# EAGLE library part GPIO_PADS (library SobieskiSat2)
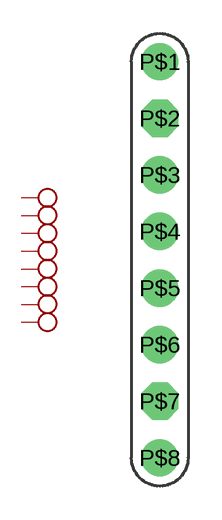
[diagram p16: symbol with the pads of GPIO_PADS; footprint GPIO_PADS]

Designator prefix -

## GPIO_PADS  [GPIO_PADS]
P$1  P$1
P$2  P$2
P$3  P$3
P$4  P$4
P$5  P$5
P$6  P$6
P$7  P$7
P$8  P$8

## Footprint GPIO_PADS (pad centres in mm)
drill 1.016 pad 1.676: P$1 0,8.89; P$3 0,3.81; P$4 0,1.27; P$5 0,-1.27; P$6 0,-3.81; P$8 0,-8.89
drill 1.016 pad 1.676 octagon: P$2 0,6.35; P$7 0,-6.35